# Altium footprint library oled_displays.PcbLib: 5 footprints
Each footprint in its own frame and in the unit in brackets; x right, y up, seen from the top. Pads: shape width x height; smd on the part's side, far side on the other; paste and mask are expansions set on the pad; w line width, h text height; cw(c..) or ccw(c..) is an arc to the next point about the centre after c.
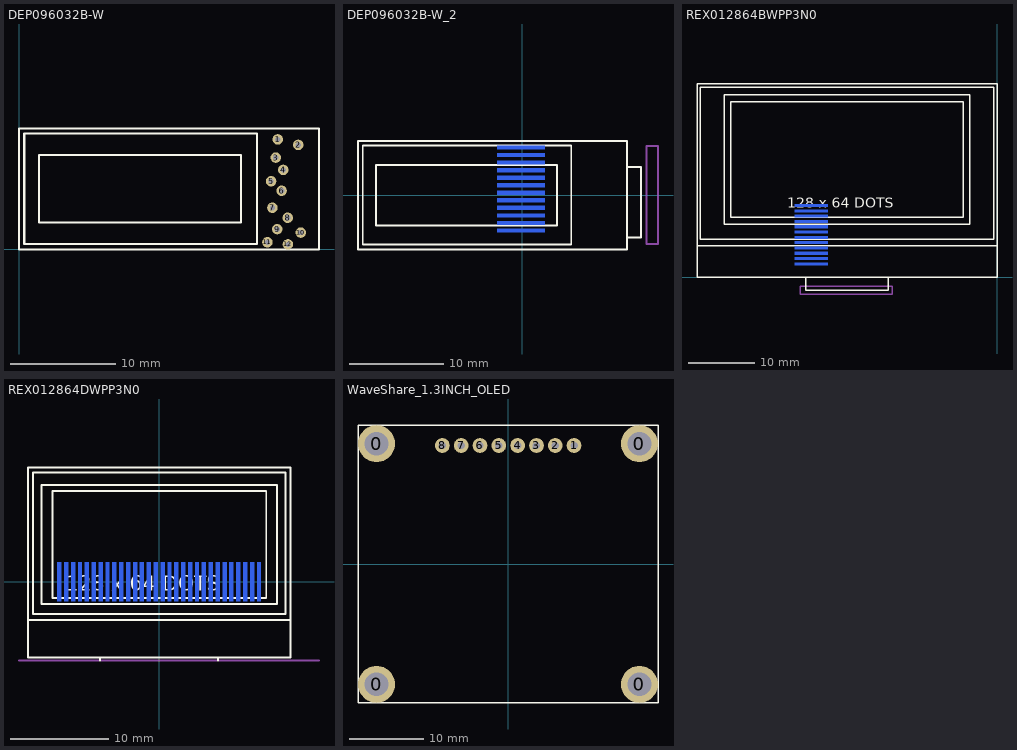
[diagram p0: the footprints below, top view; thin cyan lines are the x and y axes]

## DEP096032B-W [mm] "DEP096032B-W OLED Display"
pads (12):
  round 1 hole 0.5: 1(24.575,10.45) 2(26.525,9.925) 3(24.4,8.725) 4(25.1,7.55) 5(23.95,6.475) 6(24.95,5.575) 7(24.075,3.95) 8(25.525,3) 9(24.525,1.925) 10(26.775,1.6) 11(23.6,0.675) 12(25.55,0.475)
Top Overlay:
  lines w0.2: 0,0 28.5,0 28.5,11.5 0,11.5 0,0 ; 0.5,0.5 22.6,0.5 22.6,11 0.5,11 0.5,0.5 ; 1.9,2.55 1.9,8.95 21.075,8.95 21.075,2.55 1.9,2.55
3D body: height 1.42, standoff 1.41, extent 1.9,2.55 21.075,8.95
3D body: height 1.41, standoff 1.4, extent 0.5,0.5 22.6,11
3D body: height 1.4, standoff 0.7, extent 0,0 28.5,11.5
3D body: height 0.7, standoff 0, extent 0,0 23,11.5

## DEP096032B-W_2 [mm]
pads (12):
  rect 5x0.4 smd far side: 1(-0.125,-3.75) 2(-0.125,-2.95) 3(-0.125,-2.15) 4(-0.125,-1.35) 5(-0.125,-0.55) 6(-0.125,0.25) 7(-0.125,1.05) 8(-0.125,1.85) 9(-0.125,2.65) 10(-0.125,3.45) 11(-0.125,4.25) 12(-0.125,5.05)
Top Overlay:
  lines w0.2: 11.1,-4.5 12.6,-4.5 12.6,3 11.1,3 ; -17.4,-5.75 11.1,-5.75 11.1,5.75 -17.4,5.75 -17.4,-5.75 ; -16.9,-5.25 5.2,-5.25 5.2,5.25 -16.9,5.25 -16.9,-5.25 ; -15.5,-3.2 -15.5,3.2 3.675,3.2 3.675,-3.2 -15.5,-3.2
Bottom Overlay:
  lines w0.2: 0.375,-4.15 0.375,-4.75 2.575,-4.75 2.575,-3.95 6.375,-3.95 ; 0.375,5.45 0.375,6.05 3.875,6.05 3.875,4.65 6.375,4.65 ; 6.675,-3.95 6.775,-3.95 ; 6.675,4.65 6.775,4.65 ; 7.075,-3.95 7.175,-3.95 ; 7.075,4.65 7.175,4.65 ; 7.475,-3.95 7.575,-3.95 ; 7.475,4.65 7.575,4.65 ; 7.875,-3.95 7.975,-3.95 ; 7.875,4.65 7.975,4.65
Mechanical 3:
  lines w0.2: 13.2,-5.2 14.4,-5.2 14.4,5.2 13.2,5.2 13.2,-5.2
3D body: height 1.4, standoff 0.7, extent -17.4,-5.75 11.1,5.75
3D body: height 0.7, standoff 0, extent -17.4,-5.75 5.6,5.75
3D body: height 1.42, standoff 1.41, extent -15.5,-3.2 3.675,3.2
3D body: height 1.41, standoff 1.4, extent -16.9,-5.25 5.2,5.25

## REX012864BWPP3N0 [mm]
pads (12):
  rect 5x0.4 smd far side: 1(-28.025,2) 2(-28.025,2.8) 3(-28.025,3.6) 4(-28.025,4.4) 5(-28.025,5.2) 6(-28.025,6) 7(-28.025,6.8) 8(-28.025,7.6) 9(-28.025,8.4) 10(-28.025,9.2) 11(-28.025,10) 12(-28.025,10.8)
Top Overlay:
  lines w0.2: -45.3,4.7 0,4.7 ; -28.9,0 -28.9,-2 -16.4,-2 -16.4,0 ; -45.3,0 -45.3,29.2 0,29.2 0,0 -45.3,0 ; -44.8,5.7 -0.5,5.7 -0.5,28.7 -44.8,28.7 -44.8,5.7 ; -41.2,8 -41.2,27.5 -31.5,27.5 -4.1,27.5 -4.1,8 -41.2,8 ; -40.2,9 -5.1,9 -5.1,26.5 -40.2,26.5 -40.2,9
  text "128 x 64 DOTS" at -31.7,10.5 h1.52
Bottom Overlay:
  lines w0.2: -27.525,1.6 -27.525,1 -25.325,1 -25.325,1.8 -21.525,1.8 ; -27.525,11.2 -27.525,11.8 -24.025,11.8 -24.025,10.4 -21.525,10.4 ; -21.225,1.8 -21.125,1.8 ; -21.225,10.4 -21.125,10.4 ; -20.825,1.8 -20.725,1.8 ; -20.825,10.4 -20.725,10.4 ; -20.425,1.8 -20.325,1.8 ; -20.425,10.4 -20.325,10.4 ; -20.025,1.8 -19.925,1.8 ; -20.025,10.4 -19.925,10.4
Mechanical 3:
  lines w0.2: -29.7,-2.6 -29.7,-1.4 -15.8,-1.4 -15.8,-2.6 -29.7,-2.6
3D body: height 1.41, standoff 1.4, extent -41.2,8 -4.1,27.5
3D body: height 1.42, standoff 1.41, extent -40.2,9 -5.1,26.5
3D body: height 0.7, standoff 0, extent -45.3,4.7 0,29.2
3D body: height 1.4, standoff 0.7, extent -45.3,0 0,29.2

## REX012864DWPP3N0 [mm]
pads (30):
  rect 0.4x4 smd far side: 1(-10.15,0) 2(-9.45,0) 3(-8.75,0) 4(-8.05,0) 5(-7.35,0) 6(-6.65,0) 7(-5.95,0) 8(-5.25,0) 9(-4.55,0) 10(-3.85,0) 11(-3.15,0) 12(-2.45,0) 13(-1.75,0) 14(-1.05,0) 15(-0.35,0) 16(0.35,0) 17(1.05,0) 18(1.75,0) 19(2.45,0) 20(3.15,0) 21(3.85,0) 22(4.55,0) 23(5.25,0) 24(5.95,0) 25(6.65,0) 26(7.35,0) 27(8.05,0) 28(8.75,0) 29(9.45,0) 30(10.15,0)
Top Overlay:
  lines w0.2: -13.35,-3.875 13.35,-3.875 ; -6,-8 -6,-7.7 ; 6,-8 6,-7.675 ; -13.35,-7.675 -13.35,11.625 13.35,11.625 13.35,-7.675 -13.35,-7.675 ; -12.85,-3.275 12.85,-3.275 12.85,11.125 -12.85,11.125 -12.85,-3.275 ; -11.95,-2.233 11.988,-2.233 11.988,9.825 -11.95,9.825 -11.95,-2.233 ; -10.85,-1.633 10.888,-1.633 10.888,9.225 -10.85,9.225 -10.85,-1.633
  text "128 x 64 DOTS" at -9.5,-0.9 h1.52
Bottom Overlay:
  lines w0.2: -11,-0.35 -11,-3.9 -6.012,-6.671 ; -6,-7.95 -6,-7.85 ; -6,-7.55 -6,-7.45 ; -6,-7.15 -6,-7.05 ; 5.05,-0.35 5.65,-0.35 ; 5.988,-6.679 11,-3.85 11,-0.35 ; 6,-8 6,-7.9 ; 6,-7.6 6,-7.5 ; 6,-7.2 6,-7.1
Mechanical 3:
  lines w0.2: -14.25,-8 16.25,-8
3D body: height 1.41, standoff 1.4, extent -11.95,-2.233 11.988,9.825
3D body: height 0.7, standoff 0, extent -12.85,-3.275 12.85,11.125
3D body: height 1.4, standoff 0.7, extent -13.35,-7.675 13.35,11.625
3D body: height 1.42, standoff 1.41, extent -10.8,-1.633 10.888,9.275

## WaveShare_1.3INCH_OLED [mm]
pads (12):
  round 5 hole 3.2: 0(-17.75,-16.25) 0(-17.75,16.25) 0(17.75,-16.25) 0(17.75,16.25)
  round 2 hole 1: 1(8.92,16) 2(6.38,16) 3(3.84,16) 4(1.3,16) 5(-1.24,16) 6(-3.78,16) 7(-6.32,16) 8(-8.86,16)
Top Overlay:
  lines w0.2: -20.25,-18.75 20.25,-18.75 20.25,18.75 -20.25,18.75 -20.25,-18.75
3D body: height 2.2, standoff 1.2, extent -20.32,-18.77 20.32,18.77